# EAGLE library part CC2560F128RGZ (library perspection)
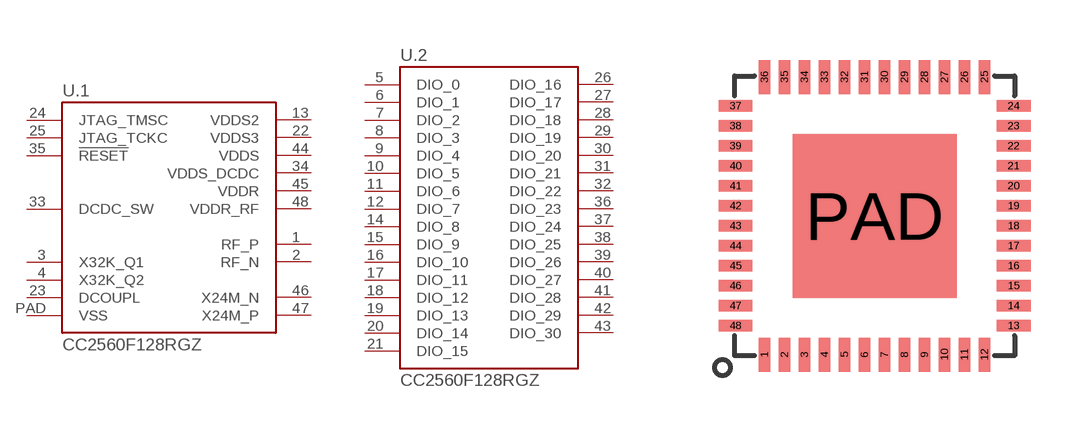
[diagram p0: symbol with the pads of TI-VQFN-48; footprint TI-VQFN-48]

Designator prefix U; gates .2=CC2650-GPIO48 .1=CC2650-CORE

## CC2560F128RGZ  [TI-VQFN-48]
1  .1:RF_P
2  .1:RF_N
3  .1:X32K_Q1
4  .1:X32K_Q2
5  .2:DIO_0
6  .2:DIO_1
7  .2:DIO_2
8  .2:DIO_3
9  .2:DIO_4
10  .2:DIO_5
11  .2:DIO_6
12  .2:DIO_7
13  .1:VDDS2
14  .2:DIO_8
15  .2:DIO_9
16  .2:DIO_10
17  .2:DIO_11
18  .2:DIO_12
19  .2:DIO_13
20  .2:DIO_14
21  .2:DIO_15
22  .1:VDDS3
23  .1:DCOUPL
24  .1:JTAG_TMSC
25  .1:JTAG_TCKC
26  .2:DIO_16
27  .2:DIO_17
28  .2:DIO_18
29  .2:DIO_19
30  .2:DIO_20
31  .2:DIO_21
32  .2:DIO_22
33  .1:DCDC_SW
34  .1:VDDS_DCDC
35  .1:!RESET
36  .2:DIO_23
37  .2:DIO_24
38  .2:DIO_25
39  .2:DIO_26
40  .2:DIO_27
41  .2:DIO_28
42  .2:DIO_29
43  .2:DIO_30
44  .1:VDDS
45  .1:VDDR
46  .1:X24M_N
47  .1:X24M_P
48  .1:VDDR_RF
PAD  .1:VSS

## Footprint TI-VQFN-48 (pad centres in mm)
smd 0.28 x 0.85: 1 -2.75,-3.475; 2 -2.25,-3.475; 3 -1.75,-3.475; 4 -1.25,-3.475; 5 -0.75,-3.475; 6 -0.25,-3.475; 7 0.25,-3.475; 8 0.75,-3.475; 9 1.25,-3.475; 10 1.75,-3.475; 11 2.25,-3.475; 12 2.75,-3.475; 25 2.75,3.475; 26 2.25,3.475; 27 1.75,3.475; 28 1.25,3.475; 29 0.75,3.475; 30 0.25,3.475; 31 -0.25,3.475; 32 -0.75,3.475; 33 -1.25,3.475; 34 -1.75,3.475; 35 -2.25,3.475; 36 -2.75,3.475
smd 0.85 x 0.28: 13 3.475,-2.75; 14 3.475,-2.25; 15 3.475,-1.75; 16 3.475,-1.25; 17 3.475,-0.75; 18 3.475,-0.25; 19 3.475,0.25; 20 3.475,0.75; 21 3.475,1.25; 22 3.475,1.75; 23 3.475,2.25; 24 3.475,2.75; 37 -3.475,2.75; 38 -3.475,2.25; 39 -3.475,1.75; 40 -3.475,1.25; 41 -3.475,0.75; 42 -3.475,0.25; 43 -3.475,-0.25; 44 -3.475,-0.75; 45 -3.475,-1.25; 46 -3.475,-1.75; 47 -3.475,-2.25; 48 -3.475,-2.75
smd 4.1 x 4.1: PAD 0,0